# Altium schematic symbol library IC.SchLib: 138 symbols (part 1 of 2)
Pins are listed as number, name and electrical type; pins without a type are passive.

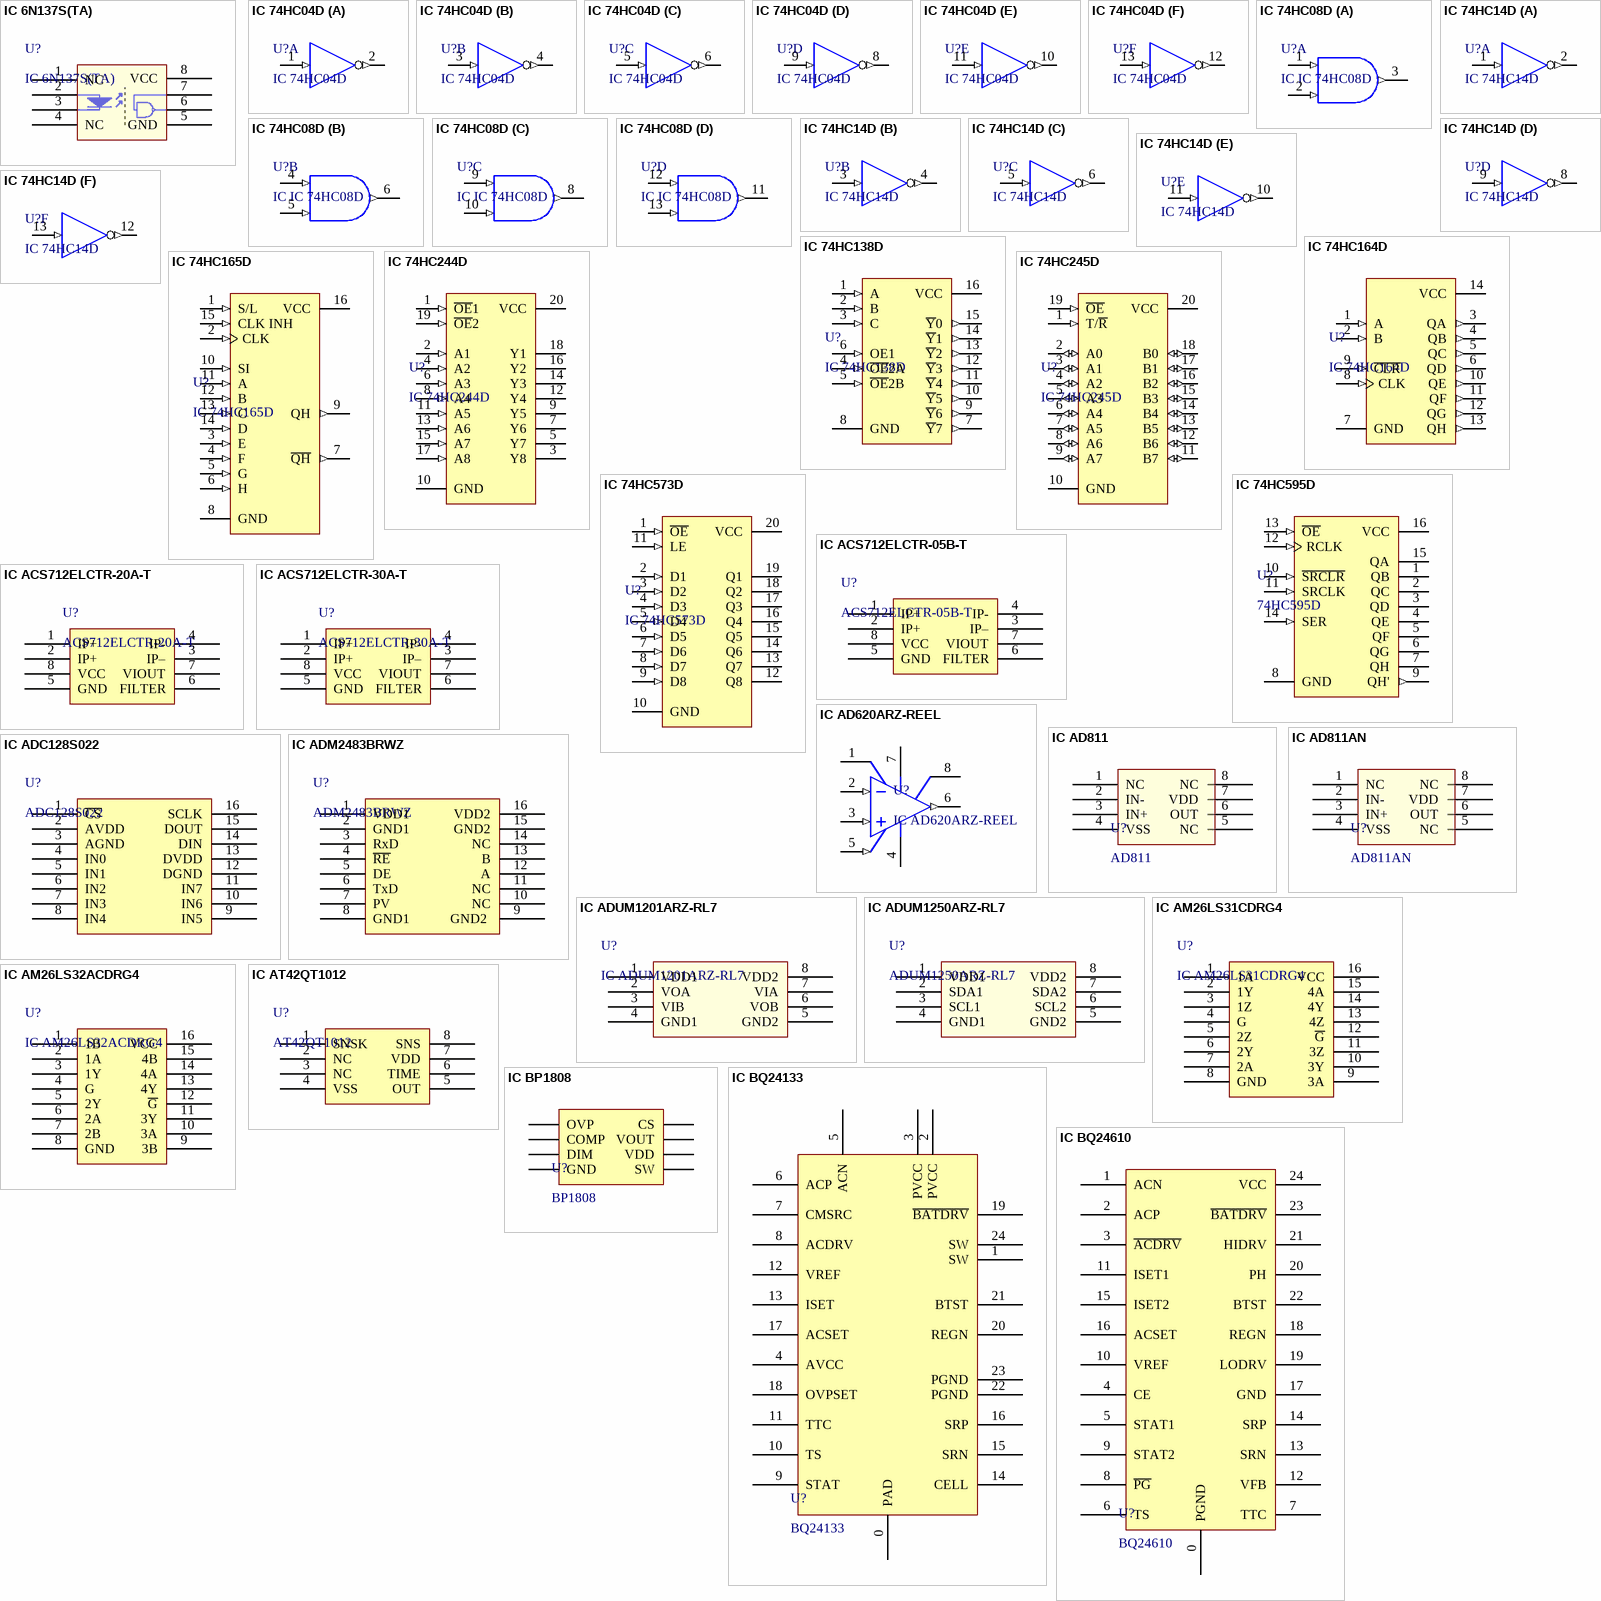
[diagram p0: symbols IC 6N137S(TA) to IC BQ24610]

## IC 6N137S(TA)
designator U?
贴片光耦; ComponentLink1Description: 供应商链接; ComponentLink1URL: http://www.szlcsc.com/product/details_17178.html; Package: SMD-8_6.3mm; Supplier: LC; SuppliersPartNumber: C16496
footprint SMD-8_6.3mm
pins: 1 NC, 2 A "Anode", 3 K "Cathode", 4 NC, 5 GND, 6 VO, 7 VE, 8 VCC

## IC 74HC04D
designator U?
74系列逻辑芯片; ComponentLink1Description: 供应商链接; ComponentLink1URL: http://www.szlcsc.com/product/details_6041.html; Package: SOIC-14_150mil; Supplier: LC; SuppliersPartNumber: C5590
footprint SOIC14_150mil
pins on every part: 7 GND (power) hidden, 14 VDD (power) hidden
part A pins: 1 A (in), 2 Y (out)
part B pins: 3 A (in), 4 Y (out)
part C pins: 5 A (in), 6 Y (out)
part D pins: 8 Y (out), 9 A (in)
part E pins: 10 Y (out), 11 A (in)
part F pins: 12 Y (out), 13 A (in)

## IC 74HC08D
designator U?, comment IC IC 74HC08D
74系列逻辑芯片; ComponentLink1Description: 供应商链接; ComponentLink1URL: http://www.szlcsc.com/product/details_6044.html; Package: SOIC-14_150mil; Supplier: LC; SuppliersPartNumber: C5593
footprint SOIC14_150mil
pins on every part: 7 GND (power) hidden, 14 VDD (power) hidden
part A pins: 1 A (in), 2 B (in), 3 Y (out)
part B pins: 4 A (in), 5 B (in), 6 Y (out)
part C pins: 8 Y (out), 9 A (in), 10 B (in)
part D pins: 11 Y (out), 12 A (in), 13 B (in)

## IC 74HC14D
designator U?
74系列逻辑芯片; ComponentLink1Description: 供应商链接; ComponentLink1URL: http://www.szlcsc.com/product/details_6056.html; Package: SOIC-14_150mil; Supplier: LC; SuppliersPartNumber: C5605
footprint SOIC14_150mil
pins on every part: 7 GND (power) hidden, 14 VDD (power) hidden
part A pins: 1 A (in), 2 Y (out)
part B pins: 3 A (in), 4 Y (out)
part C pins: 5 A (in), 6 Y (out)
part D pins: 8 Y (out), 9 A (in)
part E pins: 10 Y (out), 11 A (in)
part F pins: 12 Y (out), 13 A (in)

## IC 74HC138D
designator U?
74系列逻辑芯片; ComponentLink1Description: 供应商链接; ComponentLink1URL: http://www.szlcsc.com/product/details_6053.html; Package: SOIC-16_150mil; Supplier: LC; SuppliersPartNumber: C5602
footprint SOIC16_150mil
pins: 1 A (in), 2 B (in), 3 C (in), 4 ~{OE}2A (in), 5 ~{OE}2B (in), 6 OE1 (in), 7 ~{Y}7 (out), 8 GND (power), 9 ~{Y}6 (out), 10 ~{Y}5 (out), 11 ~{Y}4 (out), 12 ~{Y}3 (out), 13 ~{Y}2 (out), 14 ~{Y}1 (out), 15 ~{Y}0 (out), 16 VCC (power)

## IC 74HC164D
designator U?
74系列逻辑芯片; ComponentLink1Description: 供应商链接; ComponentLink1URL: http://www.szlcsc.com/product/details_7297.html; Package: SOIC-14_150mil; Supplier: LC; SuppliersPartNumber: C6825
footprint SOIC14_150mil
pins: 1 A (in), 2 B (in), 3 QA (out), 4 QB (out), 5 QC (out), 6 QD (out), 7 GND (power), 8 CLK (in), 9 ~{CLR} (in), 10 QE (out), 11 QF (out), 12 QG (out), 13 QH (out), 14 VCC (power)

## IC 74HC165D
designator U?
74系列逻辑芯片; ComponentLink1Description: 供应商链接; ComponentLink1URL: http://www.szlcsc.com/product/details_6064.html; Package: SOIC-16_150mil; Supplier: LC; SuppliersPartNumber: C5613
footprint SOIC16_150mil
pins: 1 S/L (in), 2 CLK (in), 3 E (in), 4 F (in), 5 G (in), 6 H (in), 7 ~{QH} (out), 8 GND (power), 9 QH (out), 10 SI (in), 11 A (in), 12 B (in), 13 C (in), 14 D (in), 15 CLK INH (in), 16 VCC (power)

## IC 74HC244D
designator U?
74系列逻辑芯片; ComponentLink1Description: 供应商链接; ComponentLink1URL: http://www.szlcsc.com/product/details_6073.html; Package: SOIC-20_300mil; Supplier: LC; SuppliersPartNumber: C5622
footprint SOIC20_300mil
pins: 1 ~{OE}1 (in), 2 A1 (in), 3 Y8 (hiz), 4 A2 (in), 5 Y7 (hiz), 6 A3 (in), 7 Y6 (hiz), 8 A4 (in), 9 Y5 (hiz), 10 GND (power), 11 A5 (in), 12 Y4 (hiz), 13 A6 (in), 14 Y3 (hiz), 15 A7 (in), 16 Y2 (hiz), 17 A8 (in), 18 Y1 (hiz), 19 ~{OE}2 (in), 20 VCC (power)

## IC 74HC245D
designator U?
74系列逻辑芯片; ComponentLink1Description: 供应商链接; ComponentLink1URL: http://www.szlcsc.com/product/details_6076.html; Package: SOIC-20_300mil; Supplier: LC; SuppliersPartNumber: C5625
footprint SOIC20_300mil
pins: 1 T/~{R} (in), 2 A0 (io), 3 A1 (io), 4 A2 (io), 5 A3 (io), 6 A4 (io), 7 A5 (io), 8 A6 (io), 9 A7 (io), 10 GND (power), 11 B7 (io), 12 B6 (io), 13 B5 (io), 14 B4 (io), 15 B3 (io), 16 B2 (io), 17 B1 (io), 18 B0 (io), 19 ~{OE} (in), 20 VCC (power)

## IC 74HC573D
designator U?
74系列逻辑芯片; ComponentLink1Description: 供应商链接; ComponentLink1URL: http://www.szlcsc.com/product/details_6059.html; Package: SOIC-20_300mil; Supplier: LC; SuppliersPartNumber: C5608
footprint SOIC20_300mil
pins: 1 ~{OE} (in), 2 D1 (in), 3 D2 (in), 4 D3 (in), 5 D4 (in), 6 D5 (in), 7 D6 (in), 8 D7 (in), 9 D8 (in), 10 GND (power), 11 LE (in), 12 Q8 (hiz), 13 Q7 (hiz), 14 Q6 (hiz), 15 Q5 (hiz), 16 Q4 (hiz), 17 Q3 (hiz), 18 Q2 (hiz), 19 Q1 (hiz), 20 VCC (power)

## IC 74HC595D
designator U?, comment 74HC595D
74系列逻辑芯片; Package: SOIC-16_150mil; Supplier: LC; SuppliersPartNumber: C5947; ComponentLink1Description: 立创商城链接; ComponentLink1URL: http://www.szlcsc.com/product/details_6413.html
footprint SOIC16_150mil
pins: 1 QB (hiz), 2 QC (hiz), 3 QD (hiz), 4 QE (hiz), 5 QF (hiz), 6 QG (hiz), 7 QH (hiz), 8 GND (power), 9 QH' (out), 10 ~{SRCLR} (in), 11 SRCLK (in), 12 RCLK (in), 13 ~{OE} (in), 14 SER (in), 15 QA (hiz), 16 VCC (power)

## IC ACS712ELCTR-05B-T
designator U?, comment ACS712ELCTR-05B-T
电流传感器; Package: SOIC-8_150mil; Supplier: LC; SuppliersPartNumber: C10681; ComponentLink1Description: 立创商城链接; ComponentLink1URL: https://item.szlcsc.com/45473.html
footprint SOIC8_150mil
pins: 1 IP+, 2 IP+, 3 IP–, 4 IP-, 5 GND, 6 FILTER, 7 VIOUT, 8 VCC

## IC ACS712ELCTR-20A-T
designator U?, comment ACS712ELCTR-20A-T
电流传感器; Package: SOIC-8_150mil; Supplier: LC; SuppliersPartNumber: C10681; ComponentLink1Description: 立创商城链接; ComponentLink1URL: https://item.szlcsc.com/11225.html
footprint SOIC8_150mil
pins: 1 IP+, 2 IP+, 3 IP–, 4 IP-, 5 GND, 6 FILTER, 7 VIOUT, 8 VCC

## IC ACS712ELCTR-30A-T
designator U?, comment ACS712ELCTR-30A-T
电流传感器; Package: SOIC-8_150mil; Supplier: LC; SuppliersPartNumber: C10681; ComponentLink1Description: 立创商城链接; ComponentLink1URL: https://item.szlcsc.com/10465.html
footprint SOIC8_150mil
pins: 1 IP+, 2 IP+, 3 IP–, 4 IP-, 5 GND, 6 FILTER, 7 VIOUT, 8 VCC

## IC AD620ARZ-REEL
designator U?
仪放; ComponentLink1Description: 供应商链接; ComponentLink1URL: http://www.szlcsc.com/product/details_10205.html; Package: SOIC-8_150mil; Supplier: LC; SuppliersPartNumber: C9675
footprint SOIC8_150mil
pins: 1 RG, 2 -IN (in), 3 +IN (in), 4 V- (power), 5 REF (in), 6 OUT (out), 7 V+ (power), 8 RG

## IC AD811
designator U?, comment AD811
运算放大器芯片; ComponentLink1Description: 供应商链接; ComponentLink1URL: http://www.szlcsc.com/product/details_10199.html; Package: SOIC-8_150mil; Supplier: LC; SuppliersPartNumber: C9669
footprint SOIC8_150mil
pins: 1 NC, 2 IN-, 3 IN+, 4 VSS, 5 NC, 6 OUT, 7 VDD, 8 NC

## IC AD811AN
designator U?, comment AD811AN
运算放大器芯片; ComponentLink1Description: 供应商链接; ComponentLink1URL: http://www.szlcsc.com/product/details_10199.html; Package: SOIC-8_150mil; Supplier: LC; SuppliersPartNumber: C9669
footprint DIP8
pins: 1 NC, 2 IN-, 3 IN+, 4 VSS, 5 NC, 6 OUT, 7 VDD, 8 NC

## IC ADC128S022
designator U?, comment ADC128S022
ADC芯片; Package: SOIC-16_300mil; Supplier: LC; SuppliersPartNumber: C9637; ComponentLink1Description: 立创商城链接; ComponentLink1URL: https://item.szlcsc.com/191820.html
footprint TSSOP16
pins: 1 ~{CS}, 2 AVDD, 3 AGND, 4 IN0, 5 IN1, 6 IN2, 7 IN3, 8 IN4, 9 IN5, 10 IN6, 11 IN7, 12 DGND, 13 DVDD, 14 DIN, 15 DOUT, 16 SCLK

## IC ADM2483BRWZ
designator U?, comment ADM2483BRWZ
485接口芯片; ComponentLink1Description: 供应商链接; ComponentLink1URL: http://www.szlcsc.com/product/details_10167.html; Package: SOIC-16_300mil; Supplier: LC; SuppliersPartNumber: C9637
footprint SOIC16_300mil
pins: 1 VDD1, 2 GND1, 3 RxD, 4 ~{RE}, 5 DE, 6 TxD, 7 PV, 8 GND1 , 9 GND2 , 10 NC, 11 NC, 12 A, 13 B, 14 NC, 15 GND2, 16 VDD2

## IC ADUM1201ARZ-RL7
designator U?
隔离器; ComponentLink1Description: 供应商链接; ComponentLink1URL: http://www.szlcsc.com/product/details_10199.html; Package: SOIC-8_150mil; Supplier: LC; SuppliersPartNumber: C9669
footprint SOIC8_150mil
pins: 1 VDD1 , 2 VOA, 3 VIB, 4 GND1, 5 GND2, 6 VOB, 7 VIA, 8 VDD2

## IC ADUM1250ARZ-RL7
designator U?, comment ADUM1250ARZ-RL7
隔离器; Package: SOIC-8_150mil; Supplier: LC; SuppliersPartNumber: C9669; ComponentLink1Description: 立创商城链接; ComponentLink1URL: https://item.szlcsc.com/14494.html
footprint SOIC8_150mil
pins: 1 VDD1 , 2 SDA1, 3 SCL1, 4 GND1, 5 GND2, 6 SCL2, 7 SDA2, 8 VDD2

## IC AM26LS31CDRG4
designator U?
接口芯片; ComponentLink1Description: 供应商链接; ComponentLink1URL: http://www.szlcsc.com/product/details_6645.html; Package: SOIC-16_150mil; Supplier: LC; SuppliersPartNumber: C6179
footprint SOIC16_150mil
pins: 1 1A, 2 1Y, 3 1Z, 4 G, 5 2Z, 6 2Y, 7 2A, 8 GND, 9 3A, 10 3Y, 11 3Z, 12 ~{G}, 13 4Z, 14 4Y, 15 4A, 16 VCC

## IC AM26LS32ACDRG4
designator U?
接口芯片; ComponentLink1Description: 供应商链接; ComponentLink1URL: http://www.szlcsc.com/product/details_6646.html; Package: SOIC-16_150mil; Supplier: LC; SuppliersPartNumber: C6180
footprint SOIC16_150mil
pins: 1 1B, 2 1A, 3 1Y, 4 G, 5 2Y, 6 2A, 7 2B, 8 GND, 9 3B, 10 3A, 11 3Y, 12 ~{G}, 13 4Y, 14 4A, 15 4B, 16 VCC

## IC AT42QT1012
designator U?, comment AT42QT1012
触摸感应芯片; Package: SOP-8_EP_150mil; Supplier: LC; SuppliersPartNumber: C16581; ComponentLink1Description: 立创商城链接; ComponentLink1URL: https://item.szlcsc.com/159231.html
footprint SON8 2x2
pins: 1 SNSK, 2 NC, 3 NC, 4 VSS, 5 OUT, 6 TIME, 7 VDD, 8 SNS

## IC BP1808
designator U?, comment BP1808
LED驱动
footprint SOP8_150mil_EP
pins: 1 OVP, 2 COMP, 3 DIM, 4 GND, 5 SW, 6 VDD, 7 VOUT, 8 CS

## IC BQ24133
designator U?, comment BQ24133
电池电源管理
footprint VQFN24 3.5X5.5
pins: 0 PAD, 1 SW, 2 PVCC, 3 PVCC, 4 AVCC, 5 ACN, 6 ACP, 7 CMSRC, 8 ACDRV, 9 STAT, 10 TS, 11 TTC, 12 VREF, 13 ISET, 14 CELL, 15 SRN, 16 SRP, 17 ACSET, 18 OVPSET, 19 ~{BATDRV}, 20 REGN, 21 BTST, 22 PGND, 23 PGND, 24 SW

## IC BQ24610
designator U?, comment BQ24610
电池电源管理
footprint VQFN24 4X4_EP
pins: 0 PGND, 1 ACN, 2 ACP, 3 ~{ACDRV}, 4 CE, 5 STAT1, 6 TS, 7 TTC, 8 ~{PG}, 9 STAT2, 10 VREF, 11 ISET1, 12 VFB, 13 SRN, 14 SRP, 15 ISET2, 16 ACSET, 17 GND, 18 REGN, 19 LODRV, 20 PH, 21 HIDRV, 22 BTST, 23 ~{BATDRV}, 24 VCC

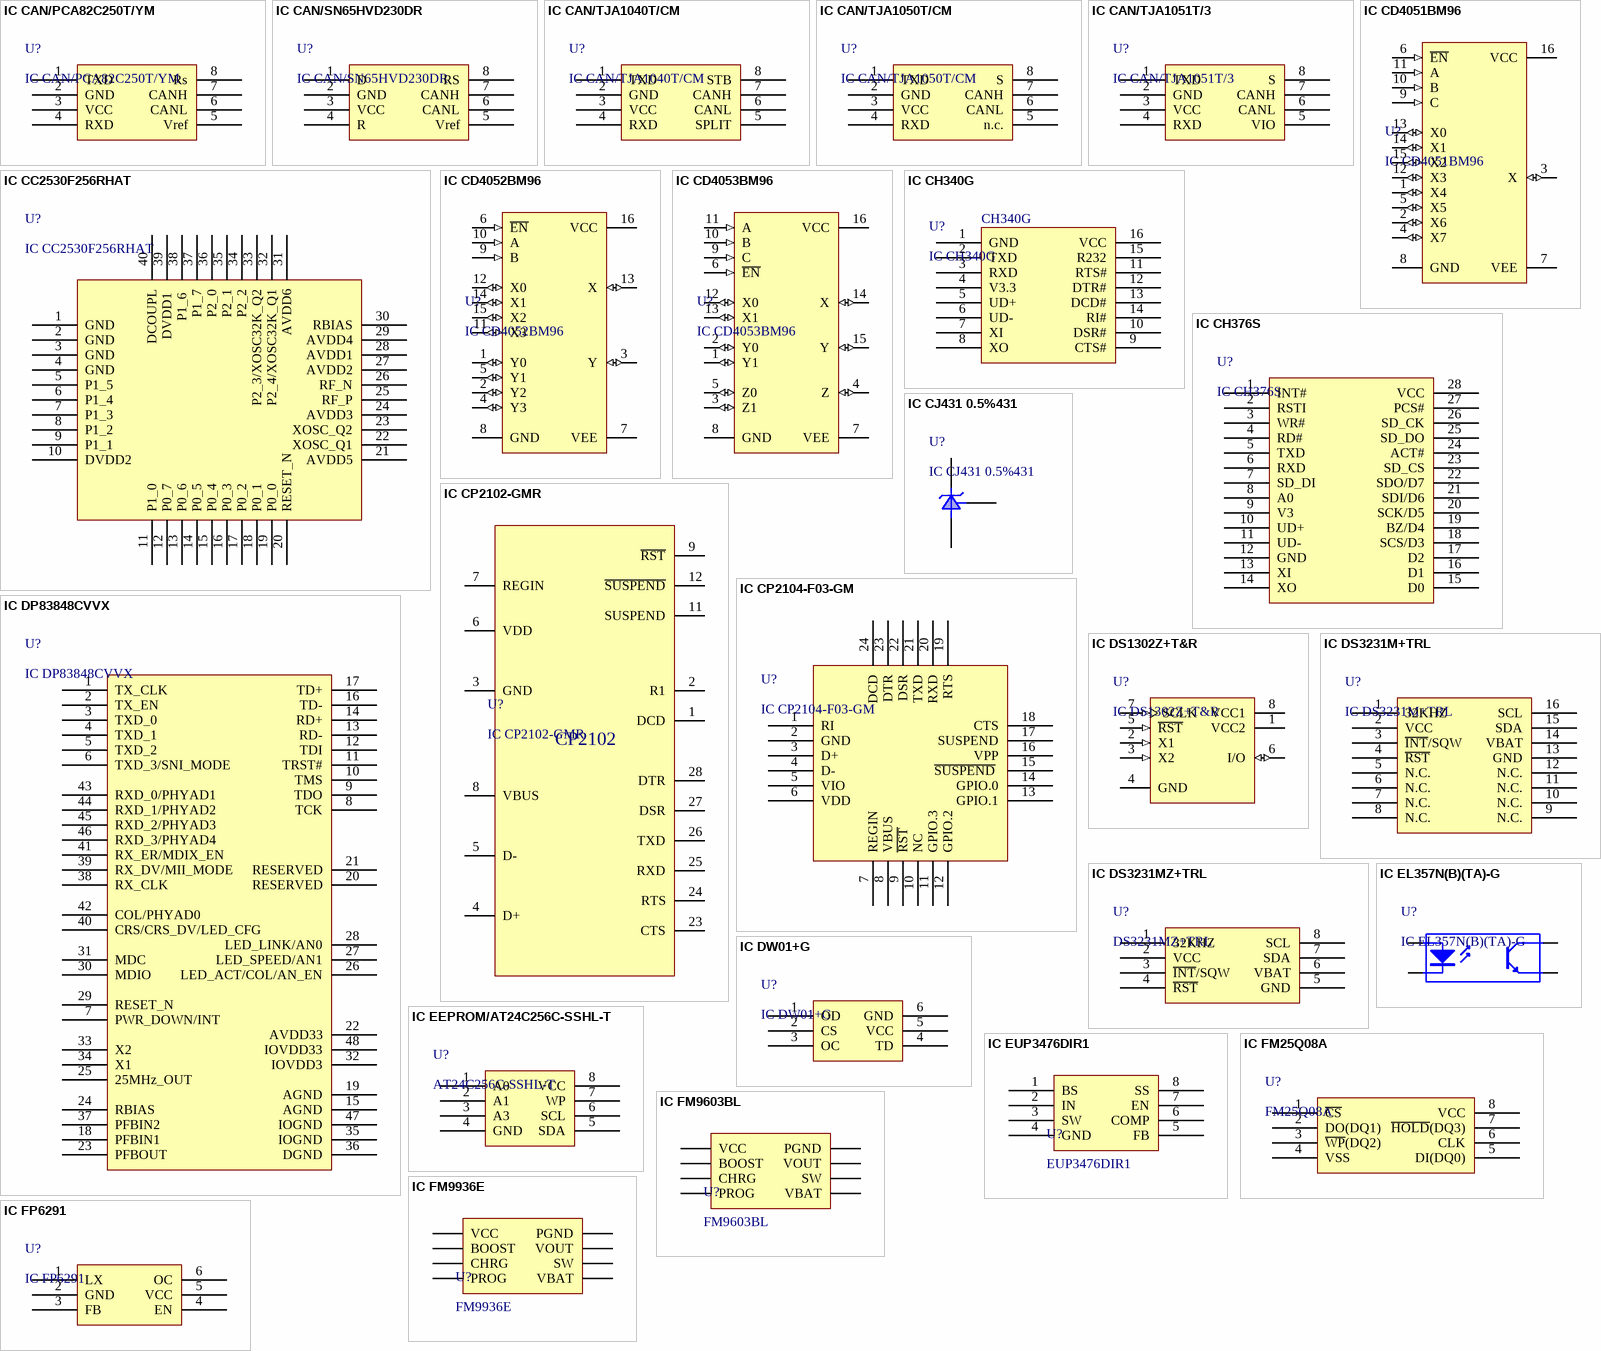
[diagram p1: symbols IC CAN/PCA82C250T/YM to IC FP6291]

## IC CAN/PCA82C250T/YM
designator U?
CAN; ComponentLink1Description: 供应商链接; ComponentLink1URL: http://www.szlcsc.com/product/details_7916.html; Package: SOIC-8_150mil; Supplier: LC; SuppliersPartNumber: C7439
footprint SOIC8_150mil
pins: 1 TXD, 2 GND, 3 VCC, 4 RXD, 5 Vref, 6 CANL, 7 CANH, 8 Rs

## IC CAN/SN65HVD230DR
designator U?
CAN; ComponentLink1Description: 供应商链接; ComponentLink1URL: http://www.szlcsc.com/product/details_12661.html; Package: SOIC-8_150mil; Supplier: LC; SuppliersPartNumber: C12084
footprint SOIC8_150mil
pins: 1 D, 2 GND, 3 VCC, 4 R, 5 Vref, 6 CANL, 7 CANH, 8 RS

## IC CAN/TJA1040T/CM
designator U?
CAN; ComponentLink1Description: 供应商链接; ComponentLink1URL: http://www.szlcsc.com/product/details_7423.html; Package: SOIC-8_150mil; Supplier: LC; SuppliersPartNumber: C6951
footprint SOIC8_150mil
pins: 1 TXD, 2 GND, 3 VCC, 4 RXD, 5 SPLIT, 6 CANL, 7 CANH, 8 STB

## IC CAN/TJA1050T/CM
designator U?
CAN; ComponentLink1Description: 供应商链接; ComponentLink1URL: http://www.szlcsc.com/product/details_7424.html; Package: SOIC-8_150mil; Supplier: LC; SuppliersPartNumber: C6952
footprint SOIC8_150mil
pins: 1 TXD, 2 GND, 3 VCC, 4 RXD, 5 n.c., 6 CANL, 7 CANH, 8 S

## IC CAN/TJA1051T/3
designator U?
CAN; ComponentLink1Description: 供应商链接; ComponentLink1URL: http://www.szlcsc.com/product/details_39678.html; Package: SOIC-8_150mil; Supplier: LC; SuppliersPartNumber: C38695
footprint SOIC8_150mil
pins: 1 TXD, 2 GND, 3 VCC, 4 RXD, 5 VIO, 6 CANL, 7 CANH, 8 S

## IC CC2530F256RHAT
designator U?
无线; ComponentLink1Description: 供应商链接; ComponentLink1URL: http://www.szlcsc.com/product/details_9643.html; Package: QFN-40_6x6x05P; Supplier: LC; SuppliersPartNumber: C9120
footprint QFN40 6x6
pins: 1 GND, 2 GND, 3 GND, 4 GND, 5 P1_5, 6 P1_4, 7 P1_3, 8 P1_2, 9 P1_1, 10 DVDD2, 11 P1_0, 12 P0_7, 13 P0_6, 14 P0_5, 15 P0_4, 16 P0_3, 17 P0_2, 18 P0_1, 19 P0_0, 20 RESET_N, 21 AVDD5, 22 XOSC_Q1, 23 XOSC_Q2, 24 AVDD3, 25 RF_P, 26 RF_N, 27 AVDD2, 28 AVDD1, 29 AVDD4, 30 RBIAS, 31 AVDD6, 32 P2_4/XOSC32K_Q1, 33 P2_3/XOSC32K_Q2, 34 P2_2, 35 P2_1, 36 P2_0, 37 P1_7, 38 P1_6 , 39 DVDD1 , 40 DCOUPL

## IC CD4051BM96
designator U?
4000系列逻辑芯片; ComponentLink1Description: 供应商链接; ComponentLink1URL: http://www.szlcsc.com/product/details_22096.html; Package: SOIC-16_150mil; Supplier: LC; SuppliersPartNumber: C21379
footprint SOIC16_150mil
pins: 1 X4 (io), 2 X6 (io), 3 X (io), 4 X7 (io), 5 X5 (io), 6 ~{EN} (in), 7 VEE (power), 8 GND (power), 9 C (in), 10 B (in), 11 A (in), 12 X3 (io), 13 X0 (io), 14 X1 (io), 15 X2 (io), 16 VCC (power)

## IC CD4052BM96
designator U?
4000系列逻辑芯片; ComponentLink1Description: 供应商链接; ComponentLink1URL: http://www.szlcsc.com/product/details_6986.html; Package: SOIC-16_150mil; Supplier: LC; SuppliersPartNumber: C6521
footprint SOIC16_150mil
pins: 1 Y0 (io), 2 Y2 (io), 3 Y (io), 4 Y3 (io), 5 Y1 (io), 6 ~{EN} (in), 7 VEE (power), 8 GND (power), 9 B (in), 10 A (in), 11 X3 (io), 12 X0 (io), 13 X (io), 14 X1 (io), 15 X2 (io), 16 VCC (power)

## IC CD4053BM96
designator U?
4000系列逻辑芯片; ComponentLink1Description: 供应商链接; ComponentLink1URL: http://www.szlcsc.com/product/details_7208.html; Package: SOIC-16_150mil; Supplier: LC; SuppliersPartNumber: C6742
footprint SOIC16_150mil
pins: 1 Y1 (io), 2 Y0 (io), 3 Z1 (io), 4 Z (io), 5 Z0 (io), 6 ~{EN} (in), 7 VEE (power), 8 GND (power), 9 C (in), 10 B (in), 11 A (in), 12 X0 (io), 13 X1 (io), 14 X (io), 15 Y (io), 16 VCC (power)

## IC CH340G
designator U?
USB; ComponentLink1Description: 供应商链接; ComponentLink1URL: http://www.szlcsc.com/product/details_14927.html; Package: SOIC-16_150mil; Supplier: LC; SuppliersPartNumber: C14267
footprint SOIC16_150mil
pins: 1 GND, 2 TXD, 3 RXD, 4 V3.3, 5 UD+, 6 UD-, 7 XI, 8 XO, 9 CTS#, 10 DSR#, 11 RTS#, 12 DTR#, 13 DCD#, 14 RI#, 15 R232, 16 VCC
text: CH340G

## IC CH376S
designator U?
USB; ComponentLink1Description: 供应商链接; ComponentLink1URL: http://www.szlcsc.com/product/details_14823.html; Package: SOIC-28_300mil; Supplier: LC; SuppliersPartNumber: C14166
footprint SOIC28_300mil
pins: 1 INT#, 2 RSTI, 3 WR#, 4 RD#, 5 TXD, 6 RXD, 7 SD_DI, 8 A0, 9 V3, 10 UD+, 11 UD-, 12 GND, 13 XI, 14 XO, 15 D0, 16 D1, 17 D2, 18 SCS/D3, 19 BZ/D4, 20 SCK/D5, 21 SDI/D6, 22 SDO/D7, 23 SD_CS, 24 ACT#, 25 SD_DO, 26 SD_CK, 27 PCS#, 28 VCC

## IC CJ431 0.5%431
designator U?
电压基准; ComponentLink1Description: 供应商链接; ComponentLink1URL: http://www.szlcsc.com/product/details_3500.html; Package: SOT-23; Supplier: LC; SuppliersPartNumber: C3113
footprint SOT23-3
pins: 1 R, 2 K, 3 A

## IC CP2102-GMR
designator U?
USB; ComponentLink1Description: 供应商链接; ComponentLink1URL: http://www.szlcsc.com/product/details_7033.html; Package: QFN-28_5x5x05P; Supplier: LC; SuppliersPartNumber: C6568
footprint QFN28 5x5
pins: 1 DCD, 2 R1, 3 GND, 4 D+, 5 D-, 6 VDD, 7 REGIN, 8 VBUS, 9 ~{RST}, 11 SUSPEND, 12 ~{SUSPEND}, 23 CTS, 24 RTS, 25 RXD, 26 TXD, 27 DSR, 28 DTR
text: CP2102

## IC CP2104-F03-GM
designator U?
USB; ComponentLink1Description: 供应商链接; ComponentLink1URL: http://www.szlcsc.com/product/details_48747.html; Package: QFN-24_4x4x05P; Supplier: LC; SuppliersPartNumber: C47742
footprint QFN24 4x4
pins: 1 RI, 2 GND, 3 D+, 4 D-, 5 VIO, 6 VDD, 7 REGIN, 8 VBUS, 9 ~{RST}, 10 NC, 11 GPIO.3, 12 GPIO.2, 13 GPIO.1, 14 GPIO.0, 15 ~{SUSPEND} , 16 VPP, 17 SUSPEND, 18 CTS, 19 RTS, 20 RXD, 21 TXD, 22 DSR, 23 DTR, 24 DCD

## IC DP83848CVVX
designator U?
接口芯片; ComponentLink1Description: 供应商链接; ComponentLink1URL: http://www.szlcsc.com/product/details_17371.html; Package: LQFP-48_7x7x05P; Supplier: LC; SuppliersPartNumber: C16688
footprint LQFP48 7x7
pins: 1 TX_CLK, 2 TX_EN, 3 TXD_0, 4 TXD_1, 5 TXD_2, 6 TXD_3/SNI_MODE, 7 PWR_DOWN/INT, 8 TCK, 9 TDO, 10 TMS, 11 TRST#, 12 TDI, 13 RD-, 14 RD+, 15 AGND, 16 TD-, 17 TD+, 18 PFBIN1, 19 AGND, 20 RESERVED, 21 RESERVED, 22 AVDD33, 23 PFBOUT, 24 RBIAS, 25 25MHz_OUT, 26 LED_ACT/COL/AN_EN, 27 LED_SPEED/AN1, 28 LED_LINK/AN0, 29 RESET_N, 30 MDIO, 31 MDC, 32 IOVDD3, 33 X2, 34 X1, 35 IOGND, 36 DGND, 37 PFBIN2, 38 RX_CLK, 39 RX_DV/MII_MODE, 40 CRS/CRS_DV/LED_CFG, 41 RX_ER/MDIX_EN, 42 COL/PHYAD0, 43 RXD_0/PHYAD1, 44 RXD_1/PHYAD2, 45 RXD_2/PHYAD3, 46 RXD_3/PHYAD4, 47 IOGND, 48 IOVDD33

## IC DS1302Z+T&R
designator U?
实时时钟; ComponentLink1Description: 供应商链接; ComponentLink1URL: http://www.szlcsc.com/product/details_9478.html; Package: SOIC-8_150mil; Supplier: LC; SuppliersPartNumber: C8959
footprint SOIC8_150mil
pins: 1 VCC2 (power), 2 X1 (in), 3 X2 (in), 4 GND (power), 5 ~{RST} (in), 6 I/O (io), 7 SCLK (in), 8 VCC1 (power)

## IC DS3231M+TRL
designator U?
实时时钟; ComponentLink1Description: 供应商链接; ComponentLink1URL: http://www.szlcsc.com/product/details_38643.html; Package: SOIC-16_300mil; Supplier: LC; SuppliersPartNumber: C37663
footprint SOIC16_300mil
pins: 1 32KHZ, 2 VCC, 3 ~{INT}/SQW, 4 ~{RST}, 5 N.C., 6 N.C., 7 N.C., 8 N.C., 9 N.C., 10 N.C., 11 N.C., 12 N.C., 13 GND, 14 VBAT, 15 SDA, 16 SCL

## IC DS3231MZ+TRL
designator U?, comment DS3231MZ+TRL
实时时钟; Package: SOIC-16_300mil; Supplier: LC; SuppliersPartNumber: C37663; ComponentLink1Description: 立创商城链接; ComponentLink1URL: https://item.szlcsc.com/108629.html
footprint SOIC8_150mil
pins: 1 32KHZ, 2 VCC, 3 ~{INT}/SQW, 4 ~{RST}, 5 GND, 6 VBAT, 7 SDA, 8 SCL

## IC DW01+G
designator U?
电池保护芯片; ComponentLink1Description: 供应商链接; ComponentLink1URL: http://www.szlcsc.com/product/details_14870.html; Package: SOT-23-6; Supplier: LC; SuppliersPartNumber: C14213
footprint SOT23-6
pins: 1 OD, 2 CS, 3 OC, 4 TD, 5 VCC, 6 GND

## IC EEPROM/AT24C256C-SSHL-T
designator U?, comment AT24C256C-SSHL-T
EEPROM; ComponentLink1Description: 供应商链接; ComponentLink1URL: http://www.szlcsc.com/product/details_6947.html; Package: SOIC-8_150mil; Supplier: LC; SuppliersPartNumber: C6482
footprint SOIC8_150mil
pins: 1 A0, 2 A1, 3 A3, 4 GND, 5 SDA, 6 SCL, 7 WP, 8 VCC

## IC EL357N(B)(TA)-G
designator U?
贴片光耦; ComponentLink1Description: 供应商链接; ComponentLink1URL: http://www.szlcsc.com/product/details_7114.html; Package: SOP-4_P2.54; Supplier: LC; SuppliersPartNumber: C6649
footprint SOP4-W2.54
pins: 1 A "Anode", 2 K "Cathode", 3 E "Emitter", 4 C "Collector"

## IC EUP3476DIR1
designator U?, comment EUP3476DIR1
DC-DC芯片; ComponentLink1Description: 供应商链接; ComponentLink1URL: http://www.szlcsc.com/product/details_15724.html; Package: SOIC-8_EP_150mil; Supplier: LC; SuppliersPartNumber: C15051
footprint SOIC8_150mil_EP
pins: 1 BS, 2 IN, 3 SW, 4 GND, 5 FB, 6 COMP, 7 EN, 8 SS

## IC FM25Q08A
designator U?, comment FM25Q08A
串行FLASH; Package: SOP-8_EP_150mil; Supplier: LC; SuppliersPartNumber: C16581; ComponentLink1Description: 立创商城链接; ComponentLink1URL: https://item.szlcsc.com/246557.html
footprint TDFN8
pins: 1 ~{CS}, 2 DO(DQ1), 3 ~{WP}(DQ2), 4 VSS, 5 DI(DQ0), 6 CLK, 7 ~{HOLD}(DQ3), 8 VCC

## IC FM9603BL
designator U?, comment FM9603BL
电源管理芯片
footprint SOP8_150mil_EP
pins: 1 VCC, 2 BOOST, 3 CHRG, 4 PROG, 5 VBAT, 6 SW, 7 VOUT, 8 PGND

## IC FM9936E
designator U?, comment FM9936E
电源管理芯片
footprint SOP8_150mil_EP
pins: 1 VCC, 2 BOOST, 3 CHRG, 4 PROG, 5 VBAT, 6 SW, 7 VOUT, 8 PGND

## IC FP6291
designator U?
DC-DC芯片; ComponentLink1Description: 供应商链接; ComponentLink1URL: http://www.szlcsc.com/product/details_19404.html; Package: SOT-23-6; Supplier: LC; SuppliersPartNumber: C18701
footprint SOT23-6
pins: 1 LX, 2 GND, 3 FB, 4 EN, 5 VCC, 6 OC

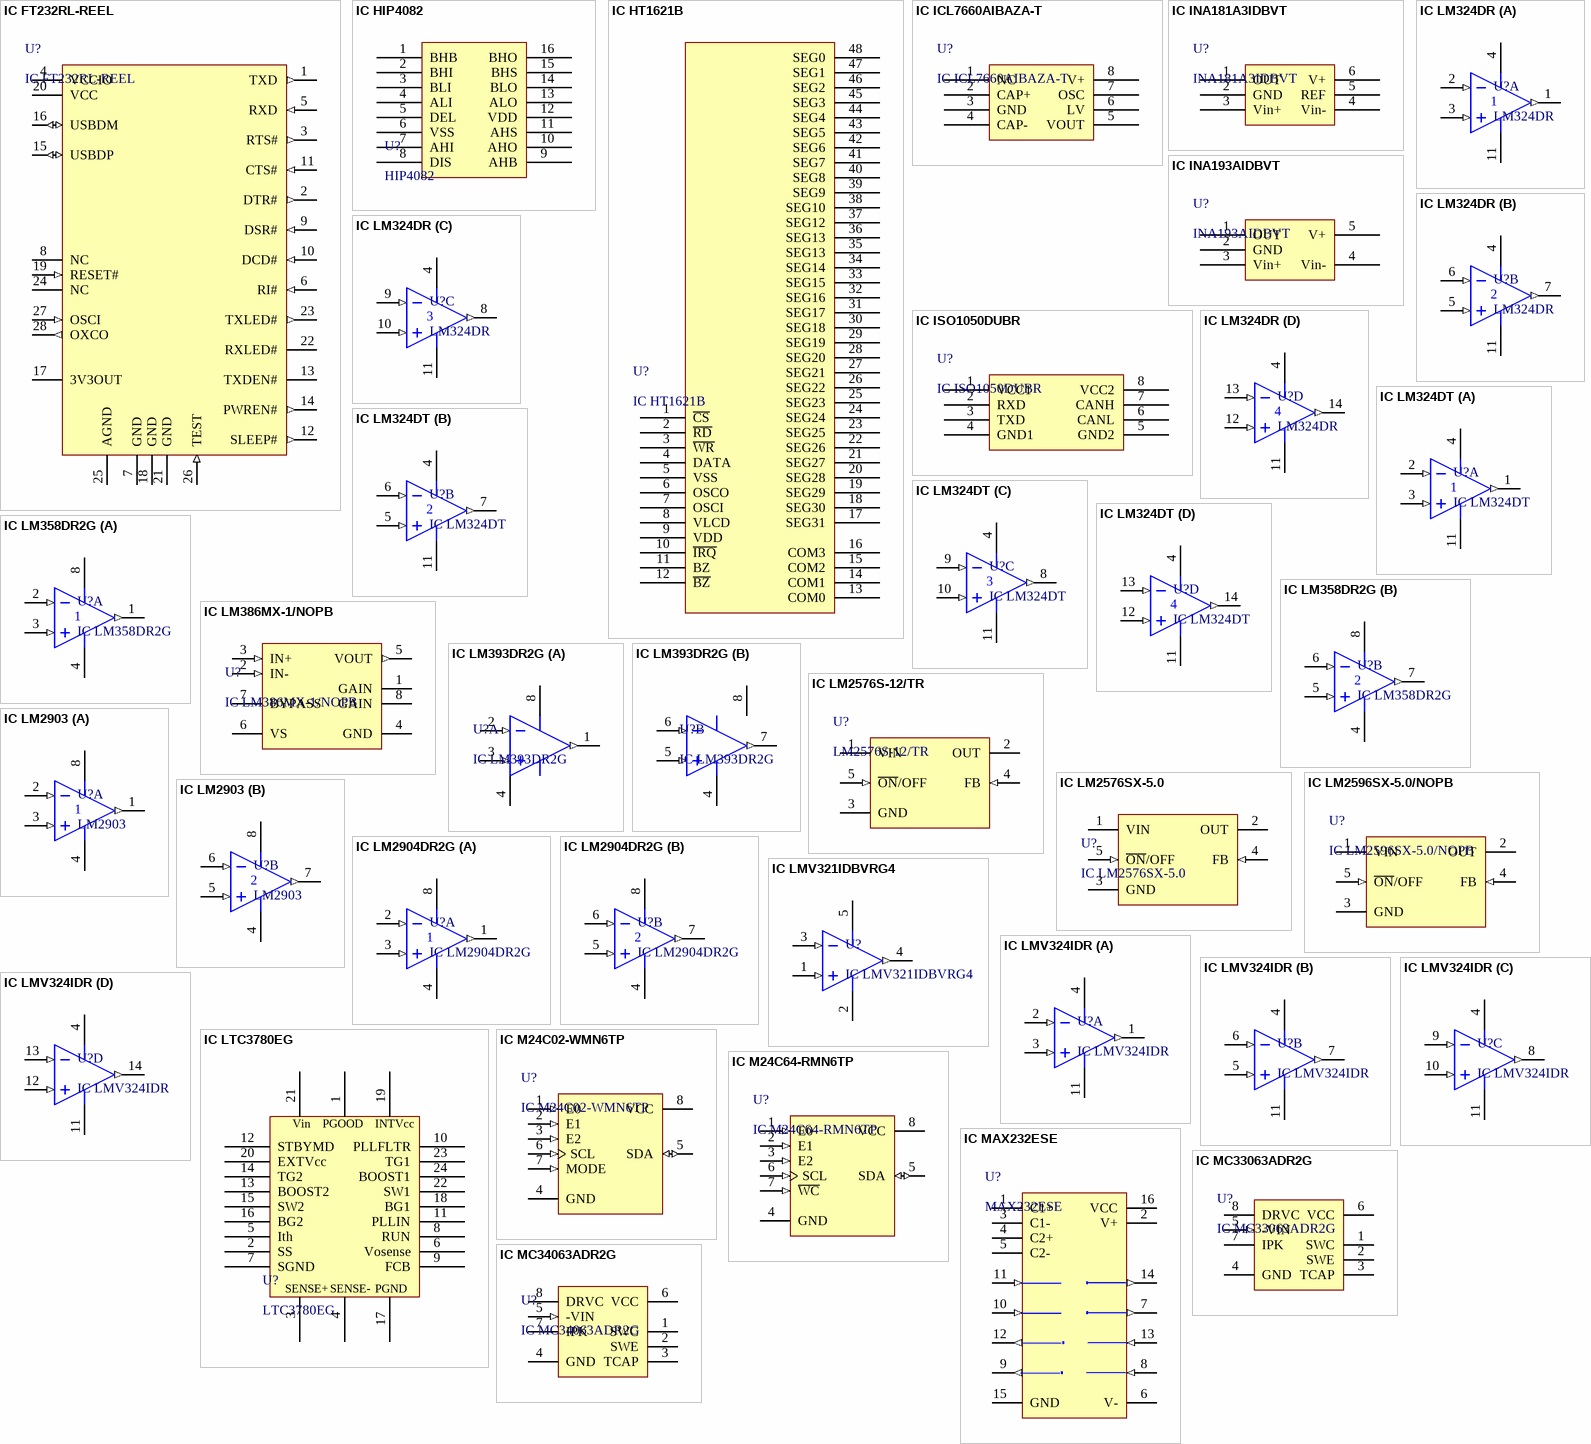
[diagram p2: symbols IC FT232RL-REEL to IC MC34063ADR2G]

## IC FT232RL-REEL
designator U?
USB; ComponentLink1Description: 供应商链接; ComponentLink1URL: http://www.szlcsc.com/product/details_9194.html; Package: SSOP-28_208mil; Supplier: LC; SuppliersPartNumber: C8690
footprint SSOP28_208mil
pins: 1 TXD (out), 2 DTR# (out), 3 RTS# (out), 4 VCCIO (power), 5 RXD (in), 6 RI# (in), 7 GND (power), 8 NC, 9 DSR# (in), 10 DCD# (in), 11 CTS# (in), 12 SLEEP# (out), 13 TXDEN# (oc), 14 PWREN# (out), 15 USBDP (io), 16 USBDM (io), 17 3V3OUT (power), 18 GND (power), 19 RESET# (in), 20 VCC (power), 21 GND (power), 22 RXLED# (oc), 23 TXLED# (out), 24 NC, 25 AGND (power), 26 TEST (in), 27 OSCI (in), 28 OXCO (out)

## IC HIP4082
designator U?, comment HIP4082
MOS驱动; ComponentLink1Description: 供应商链接; ComponentLink1URL: http://www.szlcsc.com/product/details_5880.html; Package: SOIC-16_150mil; Supplier: LC; SuppliersPartNumber: C5437
footprint SOIC16_150mil
pins: 1 BHB, 2 BHI, 3 BLI, 4 ALI, 5 DEL, 6 VSS, 7 AHI, 8 DIS, 9 AHB, 10 AHO, 11 AHS, 12 VDD, 13 ALO, 14 BLO, 15 BHS, 16 BHO

## IC HT1621B
designator U?
LCD驱动; ComponentLink1Description: 供应商链接; ComponentLink1URL: http://www.szlcsc.com/product/details_8009.html; Package: LQFP-48_7x7x05P; Supplier: LC; SuppliersPartNumber: C7532
footprint LQFP48 7x7
pins: 1 ~{CS}, 2 ~{RD}, 3 ~{WR}, 4 DATA, 5 VSS, 6 OSCO, 7 OSCI, 8 VLCD, 9 VDD, 10 ~{IRQ}, 11 BZ, 12 ~{BZ}, 13 COM0, 14 COM1, 15 COM2, 16 COM3, 17 SEG31, 18 SEG30, 19 SEG29, 20 SEG28, 21 SEG27, 22 SEG26, 23 SEG25, 24 SEG24, 25 SEG23, 26 SEG22, 27 SEG21, 28 SEG20, 29 SEG19, 30 SEG18, 31 SEG17, 32 SEG16, 33 SEG15, 34 SEG14, 35 SEG13, 36 SEG13, 37 SEG12, 38 SEG10, 39 SEG9, 40 SEG8, 41 SEG7, 42 SEG6, 43 SEG5, 44 SEG4, 45 SEG3, 46 SEG2, 47 SEG1, 48 SEG0

## IC ICL7660AIBAZA-T
designator U?
电源芯片; ComponentLink1Description: 供应商链接; ComponentLink1URL: http://www.szlcsc.com/product/details_8358.html; Package: SOIC-8_150mil; Supplier: LC; SuppliersPartNumber: C7881
footprint SOIC8_150mil
pins: 1 NC, 2 CAP+, 3 GND, 4 CAP-, 5 VOUT, 6 LV, 7 OSC, 8 V+

## IC INA181A3IDBVT
designator U?, comment INA181A3IDBVT
电流监控芯片; ComponentLink1Description: 供应商链接; ComponentLink1URL: http://www.szlcsc.com/product/details_8199.html; Package: SOT-23-5; Supplier: LC; SuppliersPartNumber: C7722
footprint SOT23-6
pins: 1 OUT, 2 GND, 3 Vin+, 4 Vin-, 5 REF, 6 V+

## IC INA193AIDBVT
designator U?, comment INA193AIDBVT
电流监控芯片; ComponentLink1Description: 供应商链接; ComponentLink1URL: http://www.szlcsc.com/product/details_8199.html; Package: SOT-23-5; Supplier: LC; SuppliersPartNumber: C7722
footprint SOT23-5
pins: 1 OUT, 2 GND, 3 Vin+, 4 Vin-, 5 V+

## IC ISO1050DUBR
designator U?
CAN; ComponentLink1Description: 供应商链接; ComponentLink1URL: http://www.szlcsc.com/product/details_17110.html; Package: SMD-8_6.3mm; Supplier: LC; SuppliersPartNumber: C16428
footprint SMD-8_6.3mm
pins: 1 VCC1, 2 RXD, 3 TXD, 4 GND1, 5 GND2, 6 CANL, 7 CANH, 8 VCC2

## IC LM324DR
designator U?, comment LM324DR
运放; Package: SOIC-14_150mil; Supplier: LC; SuppliersPartNumber: C71035; ComponentLink1Description: 立创商城链接; ComponentLink1URL: https://item.szlcsc.com/8420.html
footprint SOIC14_150mil
pins on every part: 4 V+ (power), 11 V- (power)
part A pins: 1 OUT (out), 2 IN- (in), 3 IN+ (in)
part B pins: 5 IN+ (in), 6 IN- (in), 7 OUT (out)
part C pins: 8 OUT (out), 9 IN- (in), 10 IN+ (in)
part D pins: 12 IN+ (in), 13 IN- (in), 14 OUT (out)

## IC LM324DT
designator U?
运放; ComponentLink1Description: 供应商链接; ComponentLink1URL: http://www.szlcsc.com/product/details_72134.html; Package: SOIC-14_150mil; Supplier: LC; SuppliersPartNumber: C71035
footprint SOIC14_150mil
pins on every part: 4 V+ (power), 11 V- (power)
part A pins: 1 OUT (out), 2 IN- (in), 3 IN+ (in)
part B pins: 5 IN+ (in), 6 IN- (in), 7 OUT (out)
part C pins: 8 OUT (out), 9 IN- (in), 10 IN+ (in)
part D pins: 12 IN+ (in), 13 IN- (in), 14 OUT (out)

## IC LM358DR2G
designator U?
通用运放; ComponentLink1Description: 供应商链接; ComponentLink1URL: http://www.szlcsc.com/product/details_8427.html; Package: SOIC-8; Supplier: LC; SuppliersPartNumber: C7950
footprint SOIC8_150mil
pins on every part: 4 V- (power), 8 V+ (power)
part A pins: 1 OUT (out), 2 IN- (in), 3 IN+ (in)
part B pins: 5 IN+ (in), 6 IN- (in), 7 OUT (out)

## IC LM386MX-1/NOPB
designator U?
功放; ComponentLink1Description: 供应商链接; ComponentLink1URL: http://www.szlcsc.com/product/details_24309.html; Package: SOIC-8_150mil; Supplier: LC; SuppliersPartNumber: C23573
footprint SOIC8_150mil
pins: 1 GAIN, 2 IN- (in), 3 IN+ (in), 4 GND (power), 5 VOUT (out), 6 VS (power), 7 BYPASS, 8 GAIN

## IC LM393DR2G
designator U?
电压比较器; ComponentLink1Description: 供应商链接; ComponentLink1URL: http://www.szlcsc.com/product/details_8432.html; Package: SOIC-8; Supplier: LC; SuppliersPartNumber: C7955
footprint SOIC8_150mil
pins on every part: 4 GND (power), 8 V+ (power)
part A pins: 1 OUT (out), 2 IN- (in), 3 IN+ (in)
part B pins: 5 IN+ (in), 6 IN- (in), 7 OUT (out)

## IC LM2576S-12/TR
designator U?, comment LM2576S-12/TR
DC-DC芯片; ComponentLink1Description: 供应商链接; ComponentLink1URL: http://www.szlcsc.com/product/details_10538.html; Package: TO-263-5; Supplier: LC; SuppliersPartNumber: C10002
footprint TO263-5A (263，5脚晶体管)
pins: 1 VIN (power), 2 OUT (power), 3 GND (power), 4 FB (in), 5 ~{ON}/OFF (in)

## IC LM2576SX-5.0
designator U?
DC-DC芯片; ComponentLink1Description: 供应商链接; ComponentLink1URL: http://www.szlcsc.com/product/details_35434.html; Package: TO-263-5; Supplier: LC; SuppliersPartNumber: C34465
footprint TO263-5A (263，5脚晶体管)
pins: 1 VIN (power), 2 OUT (power), 3 GND (power), 4 FB (in), 5 ~{ON}/OFF (in)

## IC LM2596SX-5.0/NOPB
designator U?
DC-DC芯片; ComponentLink1Description: 供应商链接; ComponentLink1URL: http://www.szlcsc.com/product/details_10538.html; Package: TO-263-5; Supplier: LC; SuppliersPartNumber: C10002
footprint TO263-5A (263，5脚晶体管)
pins: 1 VIN (power), 2 OUT (power), 3 GND (power), 4 FB (in), 5 ~{ON}/OFF (in)

## IC LM2903
designator U?, comment LM2903
运放; ComponentLink1Description: 供应商链接; ComponentLink1URL: http://www.szlcsc.com/product/details_18922.html; Package: SOIC-8_150mil; Supplier: LC; SuppliersPartNumber: C18229
footprint SOIC8_150mil
pins on every part: 4 V- (power), 8 V+ (power)
part A pins: 1 OUT (out), 2 IN- (in), 3 IN+ (in)
part B pins: 5 IN+ (in), 6 IN- (in), 7 OUT (out)

## IC LM2904DR2G
designator U?
运放; ComponentLink1Description: 供应商链接; ComponentLink1URL: http://www.szlcsc.com/product/details_18922.html; Package: SOIC-8_150mil; Supplier: LC; SuppliersPartNumber: C18229
footprint SOIC8_150mil
pins on every part: 4 V- (power), 8 V+ (power)
part A pins: 1 OUT (out), 2 IN- (in), 3 IN+ (in)
part B pins: 5 IN+ (in), 6 IN- (in), 7 OUT (out)

## IC LMV321IDBVRG4
designator U?
运放; ComponentLink1Description: 供应商链接; ComponentLink1URL: http://www.szlcsc.com/product/details_8449.html; Package: SOT-23-5; Supplier: LC; SuppliersPartNumber: C7972
footprint SOT23-5
pins: 1 IN+ (in), 2 V- (power), 3 IN- (in), 4 OUT (out), 5 V+ (power)

## IC LMV324IDR
designator U?
运放; ComponentLink1Description: 供应商链接; ComponentLink1URL: http://www.szlcsc.com/product/details_8451.html; Package: SOIC-14_150mil; Supplier: LC; SuppliersPartNumber: C7974
footprint SOIC14_150mil
pins on every part: 4 V+ (power), 11 V- (power)
part A pins: 1 OUTA (out), 2 INA- (in), 3 INA+ (in)
part B pins: 5 INB+ (in), 6 INB- (in), 7 OUTB (out)
part C pins: 8 OUTC (out), 9 INC- (in), 10 INC+ (in)
part D pins: 12 IND+ (in), 13 IND- (in), 14 OUTD (out)

## IC LTC3780EG
designator U?, comment LTC3780EG
DC-DC芯片; ComponentLink1Description: 供应商链接; ComponentLink1URL: http://www.szlcsc.com/product/details_42311.html; Package: SOP-28_300mil; Supplier: LC; SuppliersPartNumber: C41327
footprint SSOP24_208MIL
pins: 1 PGOOD, 2 SS, 3 SENSE+, 4 SENSE-, 5 Ith, 6 Vosense, 7 SGND, 8 RUN, 9 FCB, 10 PLLFLTR, 11 PLLIN, 12 STBYMD, 13 BOOST2, 14 TG2, 15 SW2, 16 BG2, 17 PGND, 18 BG1, 19 INTVcc, 20 EXTVcc, 21 Vin, 22 SW1, 23 TG1, 24 BOOST1

## IC M24C02-WMN6TP
designator U?
EEPROM; ComponentLink1Description: 供应商链接; ComponentLink1URL: http://www.szlcsc.com/product/details_8039.html; Package: SOIC-8_150mil; Supplier: LC; SuppliersPartNumber: C7562
footprint SOIC8_150mil
pins: 1 E0 (in), 2 E1 (in), 3 E2 (in), 4 GND (power), 5 SDA (io), 6 SCL (in), 7 MODE (in), 8 VCC (power)

## IC M24C64-RMN6TP
designator U?
EEPROM; ComponentLink1Description: 供应商链接; ComponentLink1URL: http://www.szlcsc.com/product/details_81133.html; Package: SOIC-8_150mil; Supplier: LC; SuppliersPartNumber: C79988
footprint SOIC8_150mil
pins: 1 E0 (in), 2 E1 (in), 3 E2 (in), 4 GND (power), 5 SDA (io), 6 SCL (in), 7 ~{WC} (in), 8 VCC (power)

## IC MAX232ESE
designator U?, comment MAX232ESE
RS232; ComponentLink1Description: 供应商链接; ComponentLink1URL: http://www.szlcsc.com/product/details_27608.html; Package: SOIC-16_150mil; Supplier: LC; SuppliersPartNumber: C26860
footprint SOIC16_150mil
pins: 1 C1+, 2 V+ (power), 3 C1-, 4 C2+, 5 C2-, 6 V- (power), 7 T2OUT (out), 8 R2IN (in), 9 R2OUT (out), 10 T2IN (in), 11 T1IN (in), 12 R1OUT (out), 13 R1IN (in), 14 T1OUT (out), 15 GND (power), 16 VCC (power)

## IC MC33063ADR2G
designator U?
开关电源; ComponentLink1Description: 供应商链接; ComponentLink1URL: http://www.szlcsc.com/product/details_7773.html; Package: SOIC-8_150mil; Supplier: LC; SuppliersPartNumber: C7296
footprint SOIC8_150mil
pins: 1 SWC (oc), 2 SWE (oe), 3 TCAP, 4 GND (power), 5 -VIN (in), 6 VCC (power), 7 IPK, 8 DRVC (oc)

## IC MC34063ADR2G
designator U?
DC-DC芯片; ComponentLink1Description: 供应商链接; ComponentLink1URL: http://www.szlcsc.com/product/details_33041.html; Package: SOIC-8; Supplier: LC; SuppliersPartNumber: C32078
footprint SOIC8_150mil
pins: 1 SWC (oc), 2 SWE (oe), 3 TCAP, 4 GND (power), 5 -VIN (in), 6 VCC (power), 7 IPK, 8 DRVC (oc)

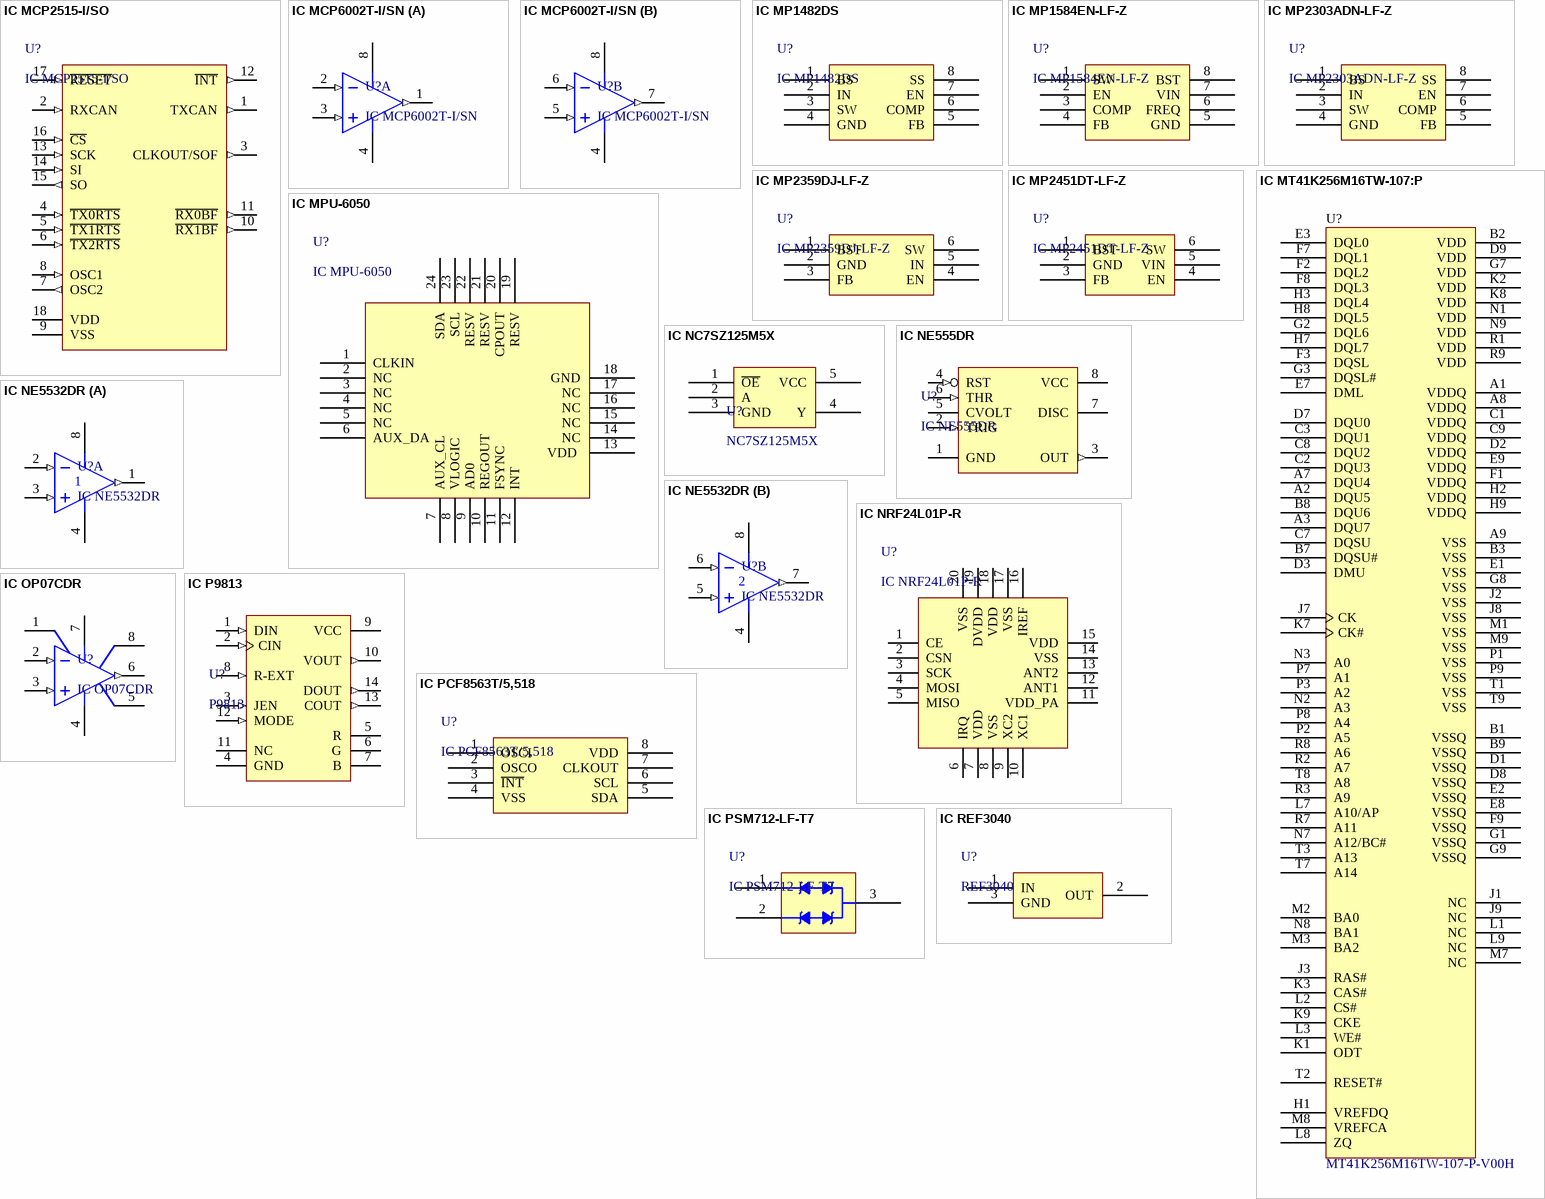
[diagram p3: symbols IC MCP2515-I/SO to IC REF3040]

## IC MCP2515-I/SO
designator U?
CAN; ComponentLink1Description: 供应商链接; ComponentLink1URL: http://www.szlcsc.com/product/details_12992.html; Package: SOIC-18_300mil; Supplier: LC; SuppliersPartNumber: C12368
footprint SOIC18_300mil
pins: 1 TXCAN (out), 2 RXCAN (in), 3 CLKOUT/SOF (out), 4 ~{TX0RTS} (in), 5 ~{TX1RTS} (in), 6 ~{TX2RTS} (in), 7 OSC2 (out), 8 OSC1 (in), 9 VSS (power), 10 ~{RX1BF} (out), 11 ~{RX0BF} (out), 12 ~{INT} (out), 13 SCK (in), 14 SI (in), 15 SO (out), 16 ~{CS} (in), 17 ~{RESET} (in), 18 VDD (power)

## IC MCP6002T-I/SN
designator U?
运放; ComponentLink1Description: 供应商链接; ComponentLink1URL: http://www.szlcsc.com/product/details_7854.html; Package: SOIC-8_150mil; Supplier: LC; SuppliersPartNumber: C7377
footprint SOIC8_150mil
pins on every part: 4 VSS (power), 8 VDD (power)
part A pins: 1 VOUTA (out), 2 VINA- (in), 3 VINA+ (in)
part B pins: 5 VINB+ (in), 6 VINB- (in), 7 VOUTB (out)

## IC MP1482DS
designator U?
电源芯片; ComponentLink1Description: 供应商链接; ComponentLink1URL: http://www.szlcsc.com/product/details_15539.html; Package: SOIC-8_150mil; Supplier: LC; SuppliersPartNumber: C14867
footprint SOIC8_150mil
pins: 1 BS, 2 IN, 3 SW, 4 GND, 5 FB, 6 COMP, 7 EN, 8 SS

## IC MP1584EN-LF-Z
designator U?
DC-DC芯片; ComponentLink1Description: 供应商链接; ComponentLink1URL: http://www.szlcsc.com/product/details_15724.html; Package: SOIC-8_EP_150mil; Supplier: LC; SuppliersPartNumber: C15051
footprint SOIC8_150mil_EP
pins: 1 SW , 2 EN , 3 COMP , 4 FB , 5 GND, 6 FREQ, 7 VIN, 8 BST

## IC MP2303ADN-LF-Z
designator U?
DC-DC芯片; ComponentLink1Description: 供应商链接; ComponentLink1URL: http://www.szlcsc.com/product/details_19579.html; Package: SOIC-8_EP_150mil; Supplier: LC; SuppliersPartNumber: C18876
footprint SOIC8_150mil_EP
pins: 1 BS , 2 IN, 3 SW, 4 GND, 5 FB, 6 COMP, 7 EN, 8 SS

## IC MP2359DJ-LF-Z
designator U?
DC-DC芯片; ComponentLink1Description: 供应商链接; ComponentLink1URL: http://www.szlcsc.com/product/details_14917.html; Package: SOT-23-6; Supplier: LC; SuppliersPartNumber: C14259
footprint SOT23-6
pins: 1 BST, 2 GND, 3 FB, 4 EN, 5 IN, 6 SW

## IC MP2451DT-LF-Z
designator U?
DC-DC芯片; ComponentLink1Description: 供应商链接; ComponentLink1URL: http://www.szlcsc.com/product/details_14780.html; Package: SOT-23-6; Supplier: LC; SuppliersPartNumber: C14123
footprint SOT23-6
pins: 1 BST, 2 GND, 3 FB, 4 EN, 5 VIN, 6 SW

## IC MPU-6050
designator U?
传感器; ComponentLink1Description: 供应商链接; ComponentLink1URL: http://www.szlcsc.com/product/details_24852.html; Package: QFN-24_4x4x05P; Supplier: LC; SuppliersPartNumber: C24112
footprint QFN24 4x4
pins: 1 CLKIN, 2 NC, 3 NC, 4 NC, 5 NC, 6 AUX_DA, 7 AUX_CL, 8 VLOGIC, 9 AD0, 10 REGOUT, 11 FSYNC, 12 INT, 13 VDD , 14 NC, 15 NC, 16 NC, 17 NC, 18 GND, 19 RESV, 20 CPOUT, 21 RESV, 22 RESV, 23 SCL, 24 SDA

## IC MT41K256M16TW-107:P
designator U?, comment value MT41K256M16TW-107-P-V00H  (hidden comment: MT41K256M16TW-107:P)
DDR3; Internal_Part_Number: MCD-00207; Part_Type: IC; Manufacturer: MICRON; Provided_By: SUBCO; Initial_Board_Reference: MB1263; Status: Released; Manufacturer_Part_Number: MT41K256M16TW-107-P-V00H; ECCN_US: n/a; ECCN_EU: n/a
footprint FBGA96 8X14
pins: A1 VDDQ "DQ Power Supply: 1.5 V +/- 0.075 V for standard voltage or 1.35V +0.1V, -0.067V for low voltage", A2 DQU5 "Data Input/ Output: Bi-directional data bus.", A3 DQU7 "Data Input/ Output: Bi-directional data bus.", A7 DQU4 "Data Input/ Output: Bi-directional data bus.", A8 VDDQ "DQ Power Supply: 1.5 V +/- 0.075 V for standard voltage or 1.35V +0.1V, -0.067V for low voltage", A9 VSS "Ground", B1 VSSQ "DQ Ground", B2 VDD "Power Supply: 1.5 V +/- 0.075 V for standard voltage or 1.35V +0.1V, -0.067V for low voltage", B3 VSS "Ground", B7 DQSU# "Data Strobe: output with read data, input with write data. Edge-aligned with read data, centered in write data. For the x16, DQSL corresponds to the data on DQL0-DQL7; DQSU corresponds to the data on DQU0-DQU7. The data strobes DQS, DQSL, and DQSU are pa", B8 DQU6 "Data Input/ Output: Bi-directional data bus.", B9 VSSQ "DQ Ground", C1 VDDQ "DQ Power Supply: 1.5 V +/- 0.075 V for standard voltage or 1.35V +0.1V, -0.067V for low voltage", C2 DQU3 "Data Input/ Output: Bi-directional data bus.", C3 DQU1 "Data Input/ Output: Bi-directional data bus.", C7 DQSU "Data Strobe: output with read data, input with write data. Edge-aligned with read data, centered in write data. For the x16, DQSL corresponds to the data on DQL0-DQL7; DQSU corresponds to the data on DQU0-DQU7. The data strobes DQS, DQSL, and DQSU are pa", C8 DQU2 "Data Input/ Output: Bi-directional data bus.", C9 VDDQ "DQ Power Supply: 1.5 V +/- 0.075 V for standard voltage or 1.35V +0.1V, -0.067V for low voltage", D1 VSSQ "DQ Ground", D2 VDDQ "DQ Power Supply: 1.5 V +/- 0.075 V for standard voltage or 1.35V +0.1V, -0.067V for low voltage", D3 DMU "Input Data Mask: DM is an input mask signal for write data. Input data is masked when DM is sampled HIGH coincident with that input data during a Write access. DM is sampled on both edges of DQS. For x8 device, the function of DM or TDQS/TDQS# is enabled", D7 DQU0 "Data Input/ Output: Bi-directional data bus.", D8 VSSQ "DQ Ground", D9 VDD "Power Supply: 1.5 V +/- 0.075 V for standard voltage or 1.35V +0.1V, -0.067V for low voltage", E1 VSS "Ground", E2 VSSQ "DQ Ground", E3 DQL0 "Data Input/ Output: Bi-directional data bus.", E7 DML "Input Data Mask: DM is an input mask signal for write data. Input data is masked when DM is sampled HIGH coincident with that input data during a Write access. DM is sampled on both edges of DQS. For x8 device, the function of DM or TDQS/TDQS# is enabled", E8 VSSQ "DQ Ground", E9 VDDQ "DQ Power Supply: 1.5 V +/- 0.075 V for standard voltage or 1.35V +0.1V, -0.067V for low voltage", F1 VDDQ "DQ Power Supply: 1.5 V +/- 0.075 V for standard voltage or 1.35V +0.1V, -0.067V for low voltage", F2 DQL2 "Data Input/ Output: Bi-directional data bus.", F3 DQSL "Data Strobe: output with read data, input with write data. Edge-aligned with read data, centered in write data. For the x16, DQSL corresponds to the data on DQL0-DQL7; DQSU corresponds to the data on DQU0-DQU7. The data strobes DQS, DQSL, and DQSU are pa", F7 DQL1 "Data Input/ Output: Bi-directional data bus.", F8 DQL3 "Data Input/ Output: Bi-directional data bus.", F9 VSSQ "DQ Ground", G1 VSSQ "DQ Ground", G2 DQL6 "Data Input/ Output: Bi-directional data bus.", G3 DQSL# "Data Strobe: output with read data, input with write data. Edge-aligned with read data, centered in write data. For the x16, DQSL corresponds to the data on DQL0-DQL7; DQSU corresponds to the data on DQU0-DQU7. The data strobes DQS, DQSL, and DQSU are pa", G7 VDD "Power Supply: 1.5 V +/- 0.075 V for standard voltage or 1.35V +0.1V, -0.067V for low voltage", G8 VSS "Ground", G9 VSSQ "DQ Ground", H1 VREFDQ "Reference voltage for DQ", H2 VDDQ "DQ Power Supply: 1.5 V +/- 0.075 V for standard voltage or 1.35V +0.1V, -0.067V for low voltage", H3 DQL4 "Data Input/ Output: Bi-directional data bus.", H7 DQL7 "Data Input/ Output: Bi-directional data bus.", H8 DQL5 "Data Input/ Output: Bi-directional data bus.", H9 VDDQ "DQ Power Supply: 1.5 V +/- 0.075 V for standard voltage or 1.35V +0.1V, -0.067V for low voltage", J1 NC "No Connect: No internal electrical connection is present.", J2 VSS "Ground", J3 RAS# "Command Inputs: RAS#, CAS# and WE# (along with CS#) define the command being entered.", J7 CK "Clock: CK and CK# are differential clock inputs. All address and control input signals are sampled on the crossing of the positive edge of CK and negative edge of CK#.", J8 VSS "Ground", J9 NC "No Connect: No internal electrical connection is present.", K1 ODT "On Die Termination: ODT (registered HIGH) enables termination resistance internal to the DDR3 SDRAM. When enabled, ODT is only applied to each DQ, DQSU, DQSU#, DQSL, DQSL#, DMU, and DML signal. The ODT pin will be ignored if MR1 and MR2 are programmed to", K2 VDD "Power Supply: 1.5 V +/- 0.075 V for standard voltage or 1.35V +0.1V, -0.067V for low voltage", K3 CAS# "Command Inputs: RAS#, CAS# and WE# (along with CS#) define the command being entered.", K7 CK# "Clock: CK and CK# are differential clock inputs. All address and control input signals are sampled on the crossing of the positive edge of CK and negative edge of CK#.", K8 VDD "Power Supply: 1.5 V +/- 0.075 V for standard voltage or 1.35V +0.1V, -0.067V for low voltage", K9 CKE "Clock Enable: CKE HIGH activates, and CKE Low deactivates, internal clock signals and device input buffers and output drivers. Taking CKE Low provides Precharge Power-Down and Self-Refresh operation (all banks idle), or Active Power-Down (row Active in a", L1 NC "No Connect: No internal electrical connection is present.", L2 CS# "Chip Select: All commands are masked when CS# is registered HIGH. CS# provides for external Rank selection on systems with multiple Ranks. CS# is considered part of the command code.", L3 WE# "Command Inputs: RAS#, CAS# and WE# (along with CS#) define the command being entered.", L7 A10/AP "Auto-precharge: A10 is sampled during Read/Write commands to determine whether Autoprecharge should be performed to the accessed bank after the Read/Write operation. (HIGH: Autoprecharge; LOW: no Autoprecharge). A10 is sampled during a Precharge command", L8 ZQ "Reference Pin for ZQ", L9 NC "No Connect: No internal electrical connection is present.", M1 VSS "Ground", M2 BA0 "Bank Address Inputs: BA0 - BA2 define to which bank an Active, Read, Write, or Precharge command is being applied. Bank address also determines which mode register is to be accessed during a MRS cycle.", M3 BA2 "Bank Address Inputs: BA0 - BA2 define to which bank an Active, Read, Write, or Precharge command is being applied. Bank address also determines which mode register is to be accessed during a MRS cycle.", M7 NC "No Connect: No internal electrical connection is present.", M8 VREFCA "Reference voltage for CA", M9 VSS "Ground", N1 VDD "Power Supply: 1.5 V +/- 0.075 V for standard voltage or 1.35V +0.1V, -0.067V for low voltage", N2 A3 "Address Inputs: Provide the row address for Active commands and the column address for Read/ Write commands to select one location out of the memory array in the respective bank. (A10/AP and A12/BC# have additional functions; see below). The address inpu", N3 A0 "Address Inputs: Provide the row address for Active commands and the column address for Read/ Write commands to select one location out of the memory array in the respective bank. (A10/AP and A12/BC# have additional functions; see below). The address inpu", N7 A12/BC# "Burst Chop: A12 / BC# is sampled during Read and Write commands to determine if burst chop (on-the-fly) will be performed. (HIGH, no burst chop; LOW: burst chopped). See command truth table for details.", N8 BA1 "Bank Address Inputs: BA0 - BA2 define to which bank an Active, Read, Write, or Precharge command is being applied. Bank address also determines which mode register is to be accessed during a MRS cycle.", N9 VDD "Power Supply: 1.5 V +/- 0.075 V for standard voltage or 1.35V +0.1V, -0.067V for low voltage", P1 VSS "Ground", P2 A5 "Address Inputs: Provide the row address for Active commands and the column address for Read/ Write commands to select one location out of the memory array in the respective bank. (A10/AP and A12/BC# have additional functions; see below). The address inpu", P3 A2 "Address Inputs: Provide the row address for Active commands and the column address for Read/ Write commands to select one location out of the memory array in the respective bank. (A10/AP and A12/BC# have additional functions; see below). The address inpu", P7 A1 "Address Inputs: Provide the row address for Active commands and the column address for Read/ Write commands to select one location out of the memory array in the respective bank. (A10/AP and A12/BC# have additional functions; see below). The address inpu", P8 A4 "Address Inputs: Provide the row address for Active commands and the column address for Read/ Write commands to select one location out of the memory array in the respective bank. (A10/AP and A12/BC# have additional functions; see below). The address inpu", P9 VSS "Ground", R1 VDD "Power Supply: 1.5 V +/- 0.075 V for standard voltage or 1.35V +0.1V, -0.067V for low voltage", R2 A7 "Address Inputs: Provide the row address for Active commands and the column address for Read/ Write commands to select one location out of the memory array in the respective bank. (A10/AP and A12/BC# have additional functions; see below). The address inpu", R3 A9 "Address Inputs: Provide the row address for Active commands and the column address for Read/ Write commands to select one location out of the memory array in the respective bank. (A10/AP and A12/BC# have additional functions; see below). The address inpu", R7 A11 "Address Inputs: Provide the row address for Active commands and the column address for Read/ Write commands to select one location out of the memory array in the respective bank. (A10/AP and A12/BC# have additional functions; see below). The address inpu", R8 A6 "Address Inputs: Provide the row address for Active commands and the column address for Read/ Write commands to select one location out of the memory array in the respective bank. (A10/AP and A12/BC# have additional functions; see below). The address inpu", R9 VDD "Power Supply: 1.5 V +/- 0.075 V for standard voltage or 1.35V +0.1V, -0.067V for low voltage", T1 VSS "Ground", T2 RESET# "Active Low Asynchronous Reset: Reset is active when RESET# is LOW, and inactive when RESET# is HIGH. RESET# must be HIGH during normal operation. RESET# is a CMOS rail- to-rail signal with DC high and low at 80% and 20% of VDD, i.e., 1.20V for DC high an", T3 A13 "Burst Chop: A12 / BC# is sampled during Read and Write commands to determine if burst chop (on-the-fly) will be performed. (HIGH, no burst chop; LOW: burst chopped). See command truth table for details.", T7 A14 "Burst Chop: A12 / BC# is sampled during Read and Write commands to determine if burst chop (on-the-fly) will be performed. (HIGH, no burst chop; LOW: burst chopped). See command truth table for details.", T8 A8 "Address Inputs: Provide the row address for Active commands and the column address for Read/ Write commands to select one location out of the memory array in the respective bank. (A10/AP and A12/BC# have additional functions; see below). The address inpu", T9 VSS "Ground"

## IC NC7SZ125M5X
designator U?, comment NC7SZ125M5X
逻辑缓冲芯片; ComponentLink1Description: 供应商链接; ComponentLink1URL: http://www.szlcsc.com/product/details_10396.html; Package: SOP-8_EP_150mil; Supplier: LC; SuppliersPartNumber: C9864
footprint SOT23-5
pins: 1 ~{OE}, 2 A, 3 GND, 4 Y, 5 VCC

## IC NE555DR
designator U?
时基集成; ComponentLink1Description: 供应商链接; ComponentLink1URL: http://www.szlcsc.com/product/details_8070.html; Package: SOIC-8_150mil; Supplier: LC; SuppliersPartNumber: C7593
footprint SOIC8_150mil
pins: 1 GND (power), 2 TRIG (in), 3 OUT (out), 4 RST (in), 5 CVOLT, 6 THR (in), 7 DISC (oc), 8 VCC (power)

## IC NE5532DR
designator U?
功放; ComponentLink1Description: 供应商链接; ComponentLink1URL: http://www.szlcsc.com/product/details_7903.html; Package: SOIC-8_150mil; Supplier: LC; SuppliersPartNumber: C7426
footprint SOIC8_150mil
pins on every part: 4 V- (power), 8 V+ (power)
part A pins: 1 OUT (out), 2 IN- (in), 3 IN+ (in)
part B pins: 5 IN+ (in), 6 IN- (in), 7 OUT (out)

## IC NRF24L01P-R
designator U?
无线; ComponentLink1Description: 供应商链接; ComponentLink1URL: http://www.szlcsc.com/product/details_9305.html; Package: QFN-20_4x4x05P; Supplier: LC; SuppliersPartNumber: C8791
footprint QFN20 4x4
pins: 1 CE, 2 CSN, 3 SCK, 4 MOSI, 5 MISO, 6 IRQ, 7 VDD, 8 VSS, 9 XC2, 10 XC1, 11 VDD_PA, 12 ANT1, 13 ANT2, 14 VSS, 15 VDD, 16 IREF, 17 VSS, 18 VDD, 19 DVDD, 20 VSS

## IC OP07CDR
designator U?
精密运放; ComponentLink1Description: 供应商链接; ComponentLink1URL: http://www.szlcsc.com/product/details_7910.html; Package: SOIC-8; Supplier: LC; SuppliersPartNumber: C7433
footprint SOIC8_150mil
pins: 1 VOSTRIM, 2 IN- (in), 3 IN+ (in), 4 V- (power), 5 NC, 6 OUT (out), 7 V+ (power), 8 VOSTRIM

## IC P9813
designator U?, comment P9813
LED驱动芯片; Package: SOIC-16_150mil; Supplier: LC; SuppliersPartNumber: C5947
footprint SOP14_150MIL
pins: 1 DIN (in), 2 CIN (in), 3 JEN (in), 4 GND, 5 R (hiz), 6 G (hiz), 7 B (hiz), 8 R-EXT (in), 9 VCC (hiz), 10 VOUT (out), 11 NC (power), 12 MODE (in), 13 COUT (out), 14 DOUT (out)

## IC PCF8563T/5,518
designator U?
实时时钟; ComponentLink1Description: 供应商链接; ComponentLink1URL: http://www.szlcsc.com/product/details_7917.html; Package: SOIC-8_150mil; Supplier: LC; SuppliersPartNumber: C7440
footprint SOIC8_150mil
pins: 1 OSCI, 2 OSCO, 3 ~{INT}, 4 VSS, 5 SDA, 6 SCL, 7 CLKOUT, 8 VDD

## IC PSM712-LF-T7
designator U?
TVS; ComponentLink1Description: 供应商链接; ComponentLink1URL: http://www.szlcsc.com/product/details_33642.html; Package: SOT-23(SOT-23-3); Supplier: LC; SuppliersPartNumber: C32677
footprint SOT23-3
pins: 1, 2, 3

## IC REF3040
designator U?, comment REF3040
电压基准; Package: SOT-23; Supplier: LC; SuppliersPartNumber: C3113; ComponentLink1Description: 立创商城链接; ComponentLink1URL: https://item.szlcsc.com/20123.html
footprint SOT23-3
pins: 1 IN, 2 OUT, 3 GND

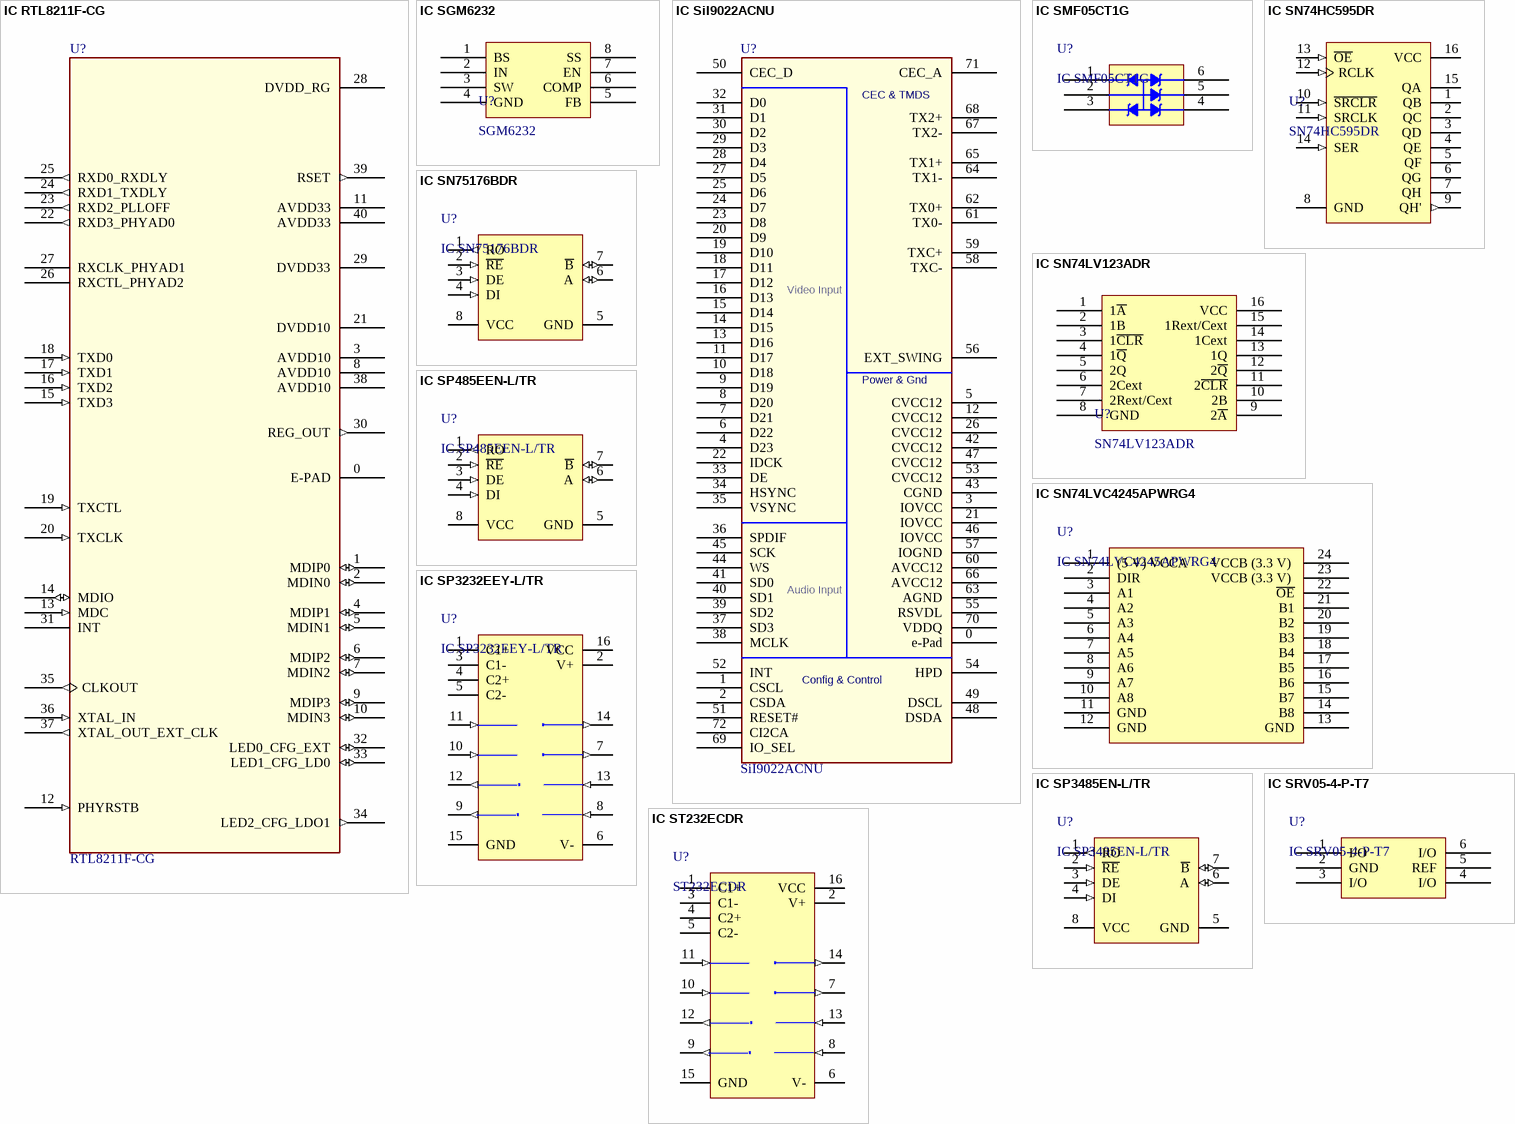
[diagram p4: symbols IC RTL8211F-CG to IC ST232ECDR]

## IC RTL8211F-CG
designator U?, comment RTL8211F-CG
以太网PHY 10/100/1000M; Internal_Part_Number: MCD-01130; Manufacturer: REALTEK; Part_Type: IC; Provided_By: SUBCO; Initial_Board_Reference: MB1272; Manufacturer_Part_Number: RTL8211F-CG; ComponentLink1Description: Datasheet; ComponentLink1URL: http://tunmcdsvn.tun.st.com/Component_Datasheet_Library/Trunk/IC/REALTEK_RTL8211F_RGMII_phy; Status: Checked; ECCN_US: n/a; ECCN_EU: n/a; Value: RTL8211F-CG
footprint QFN40 5X5
pins: 0 E-PAD (power), 1 MDIP0 (io), 2 MDIN0 (io), 3 AVDD10 (power), 4 MDIP1 (io), 5 MDIN1 (io), 6 MDIP2 (io), 7 MDIN2 (io), 8 AVDD10 (power), 9 MDIP3 (io), 10 MDIN3 (io), 11 AVDD33 (power), 12 PHYRSTB (in), 13 MDC (in), 14 MDIO (io), 15 TXD3 (in), 16 TXD2 (in), 17 TXD1 (in), 18 TXD0 (in), 19 TXCTL (in), 20 TXCLK (in), 21 DVDD10 (power), 22 RXD3_PHYAD0 (out), 23 RXD2_PLLOFF (out), 24 RXD1_TXDLY (out), 25 RXD0_RXDLY (out), 26 RXCTL_PHYAD2, 27 RXCLK_PHYAD1, 28 DVDD_RG (power), 29 DVDD33 (power), 30 REG_OUT (out), 31 INT, 32 LED0_CFG_EXT (io), 33 LED1_CFG_LD0 (io), 34 LED2_CFG_LDO1 (out), 35 CLKOUT (out), 36 XTAL_IN (in), 37 XTAL_OUT_EXT_CLK (out), 38 AVDD10 (power), 39 RSET (out), 40 AVDD33 (power)

## IC SGM6232
designator U?, comment SGM6232
DC-DC芯片; ComponentLink1Description: 供应商链接; ComponentLink1URL: http://www.szlcsc.com/product/details_15724.html; Package: SOIC-8_EP_150mil; Supplier: LC; SuppliersPartNumber: C15051
footprint SOIC8_150mil_EP
pins: 1 BS, 2 IN, 3 SW, 4 GND, 5 FB, 6 COMP, 7 EN, 8 SS

## IC SiI9022ACNU
designator U?, comment SiI9022ACNU
HDMI接口芯片; Internal_Part_Number: MCD-00267; Part_Type: IC; Manufacturer: LATTICE; Provided_By: SUBCO; Initial_Board_Reference: MB1272; Status: Checked; Manufacturer_Part_Number: SiI9022ACNU; ComponentLink1Description: Datasheet; ComponentLink1URL: http://tunmcdsvn.tun.st.com/Component_Datasheet_Library/Trunk/IC/LATTICE_SiI9022ACNU_HDMI_Transmitter; Value: SiI9022ACNU
footprint QFN72 10X10 EP
pins: 0 e-Pad (power), 1 CSCL, 2 CSDA, 3 IOVCC (power), 4 D23, 5 CVCC12 (power), 6 D22, 7 D21, 8 D20, 9 D19, 10 D18, 11 D17, 12 CVCC12 (power), 13 D16, 14 D15, 15 D14, 16 D13, 17 D12, 18 D11, 19 D10, 20 D9, 21 IOVCC (power), 22 IDCK, 23 D8, 24 D7, 25 D6, 26 CVCC12 (power), 27 D5, 28 D4, 29 D3, 30 D2, 31 D1, 32 D0, 33 DE, 34 HSYNC, 35 VSYNC, 36 SPDIF, 37 SD3, 38 MCLK, 39 SD2, 40 SD1, 41 SD0, 42 CVCC12 (power), 43 CGND (power), 44 WS, 45 SCK, 46 IOVCC (power), 47 CVCC12 (power), 48 DSDA, 49 DSCL, 50 CEC_D, 51 RESET#, 52 INT, 53 CVCC12 (power), 54 HPD, 55 RSVDL (power), 56 EXT_SWING, 57 IOGND (power), 58 TXC-, 59 TXC+, 60 AVCC12 (power), 61 TX0-, 62 TX0+, 63 AGND (power), 64 TX1-, 65 TX1+, 66 AVCC12 (power), 67 TX2-, 68 TX2+, 69 IO_SEL, 70 VDDQ (power), 71 CEC_A, 72 CI2CA
text: CEC & TMDS; Video Input; Power & Gnd; Audio Input; Config & Control

## IC SMF05CT1G
designator U?
TVS; ComponentLink1Description: 供应商链接; ComponentLink1URL: http://www.szlcsc.com/product/details_16561.html; Package: SC-70-6(SOT-363); Supplier: LC; SuppliersPartNumber: C15879
footprint SC-70-6(SOT-363)
pins: 1, 2, 3, 4, 5, 6

## IC SN74HC595DR
designator U?, comment SN74HC595DR
74系列逻辑芯片; Package: SOIC-16_150mil; Supplier: LC; SuppliersPartNumber: C5947; ComponentLink1Description: 立创商城链接; ComponentLink1URL: https://item.szlcsc.com/10631.html
footprint SOIC16_150mil
pins: 1 QB (hiz), 2 QC (hiz), 3 QD (hiz), 4 QE (hiz), 5 QF (hiz), 6 QG (hiz), 7 QH (hiz), 8 GND (power), 9 QH' (out), 10 ~{SRCLR} (in), 11 SRCLK (in), 12 RCLK (in), 13 ~{OE} (in), 14 SER (in), 15 QA (hiz), 16 VCC (power)